# Altium schematic symbol library Schematic-Library.SchLib: 29 symbols
Pins are listed as number, name and electrical type; pins without a type are passive.

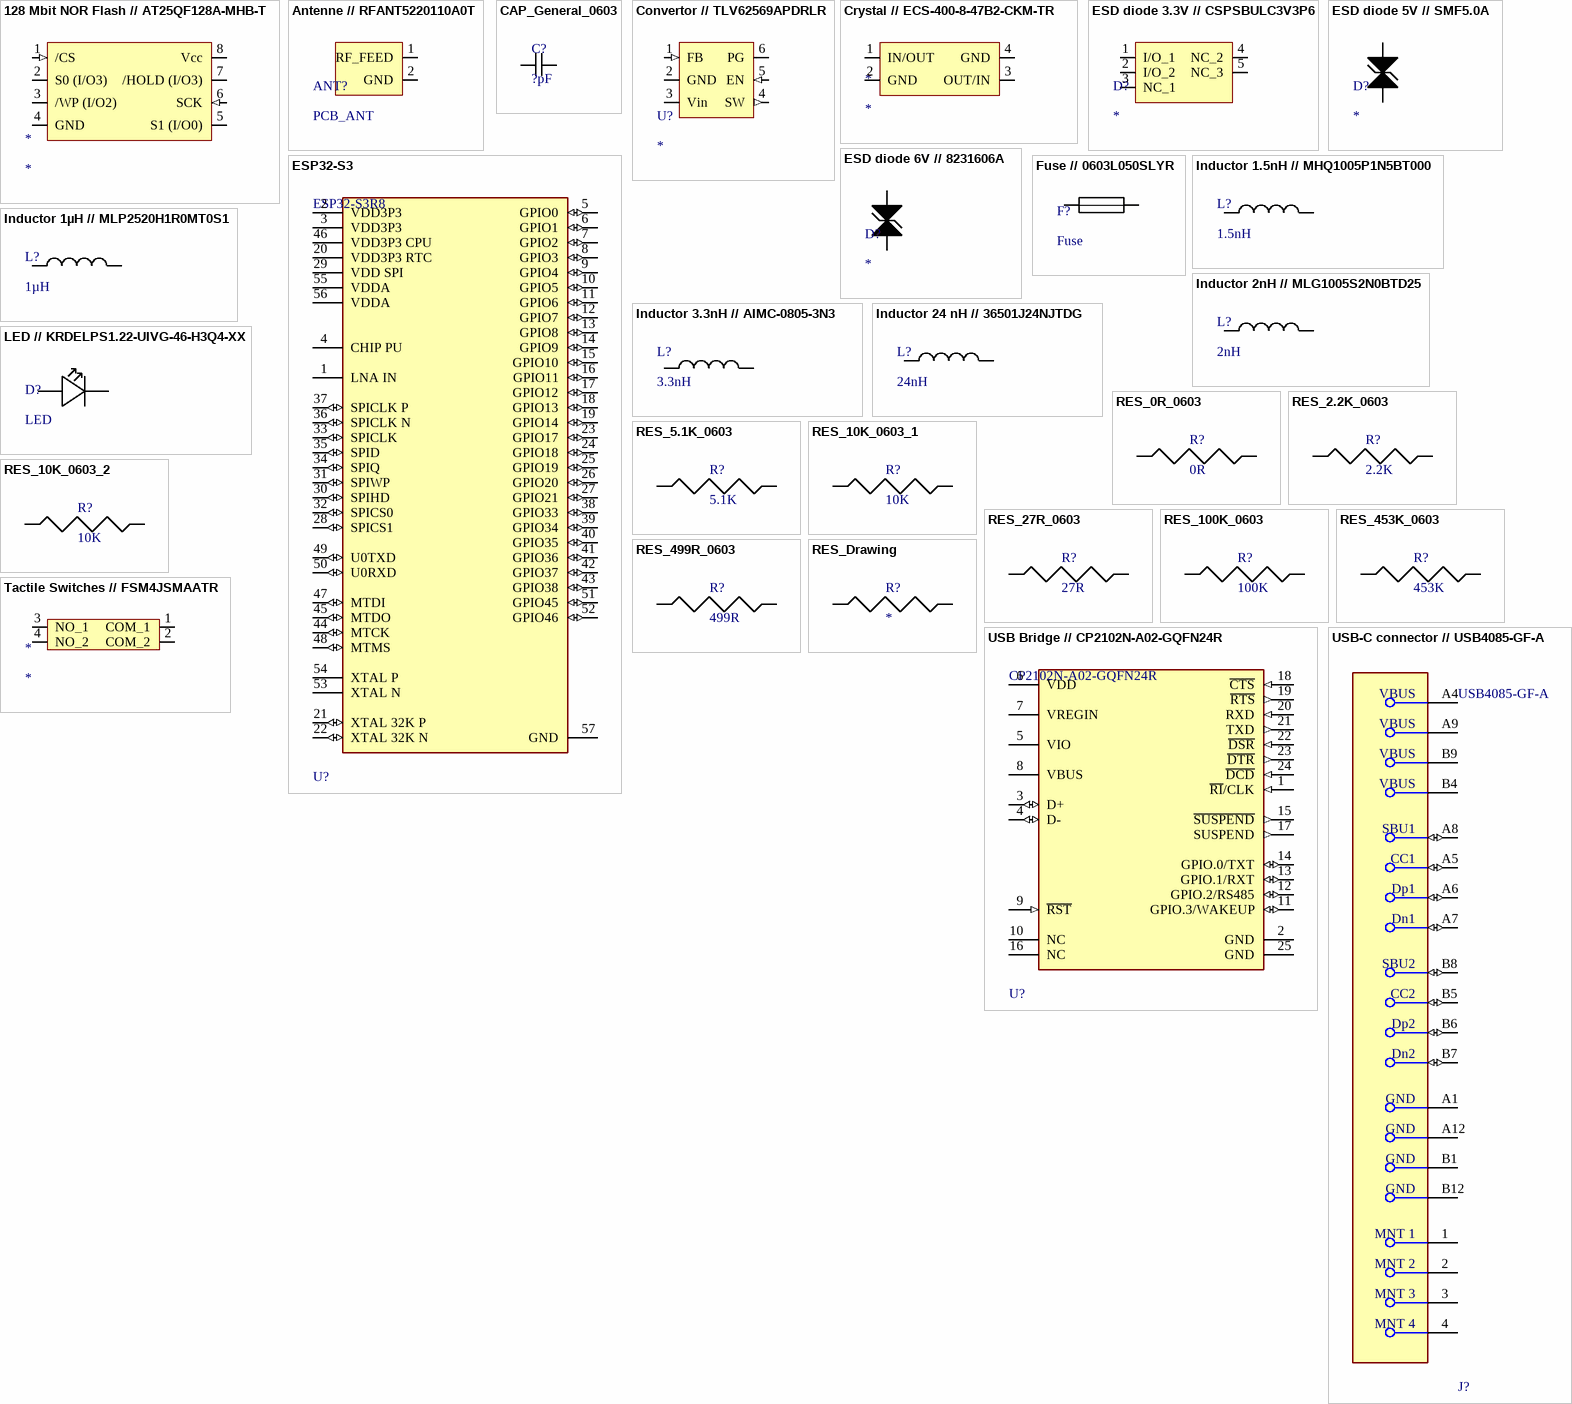
[diagram p0: symbols 128 Mbit NOR Flash // AT25QF128A-MHB-T to USB-C connector // USB4085-GF-A]

## 128 Mbit NOR Flash // AT25QF128A-MHB-T
designator *
footprint 128 Mbit NOR Flash // AT25QF128A-MHB-T
pins: 1 /CS (in), 2 S0 (I/O3) (io), 3 /WP (I/O2) (io), 4 GND (power), 5 S1 (I/O0) (io), 6 SCK (in), 7 /HOLD (I/O3) (io), 8 Vcc (power)

## Antenne // RFANT5220110A0T
designator ANT?, comment PCB_ANT
footprint Antenne // RFANT5220110A0T
pins: 1 RF_FEED, 2 GND (power)

## CAP_General_0603
designator C?, comment ?pF
Capacitor SMD 0603 ?pF
footprint CAP_General_0603 (Chip Capacitor, 2-Leads, Body 1,60x0,80mm, IPC Medium Density)
pins: 1, 2

## Convertor // TLV62569APDRLR
designator U?
footprint CONVERTOR // TLV62569APDRLR (SOT23, 6-Leads, Body 1,60x2,15mm, Pitch 0,50mm, IPC Medium Density)
pins: 1 FB (in), 2 GND (power), 3 Vin (power), 4 SW (out), 5 EN (in), 6 PG (oc)

## Crystal // ECS­400­8­47B2­CKM­TR
designator *
footprint Crystal // ECS­400­8­47B2­CKM­TR (40 MHz Crystal)
pins: 1 IN/OUT (io), 2 GND (power), 3 OUT/IN (io), 4 GND (power)

## ESD diode 3.3V // CSPSBULC3V3P6
designator D?
footprint ESD diode 3.3V // CSPSBULC3V3P6
pins: 1 I/O_1 (io), 2 I/O_2 (io), 3 NC_1, 4 NC_2, 5 NC_3

## ESD diode 5V // SMF5.0A
designator D?
footprint ESD diode 5V // SMF5.0A
pins: 1, 2

## ESD diode 6V // 8231606A
designator D?
footprint ESD diode 6V // 8231606A
pins: 1, 2

## ESP32-S3
designator U?, comment ESP32-S3R8
ESP32-S3R8 RF System on a Chip - SoC SMD IC, Dual-Core MCU, Wi-Fi 2.4G BLE 5.0 Combo; NexarPartId: 118292493
footprint FP-ESP32-S3R8
pins: 1 LNA IN, 2 VDD3P3 (power), 3 VDD3P3 (power), 4 CHIP PU, 5 GPIO0 (io), 6 GPIO1 (io), 7 GPIO2 (io), 8 GPIO3 (io), 9 GPIO4 (io), 10 GPIO5 (io), 11 GPIO6 (io), 12 GPIO7 (io), 13 GPIO8 (io), 14 GPIO9 (io), 15 GPIO10 (io), 16 GPIO11 (io), 17 GPIO12 (io), 18 GPIO13 (io), 19 GPIO14 (io), 20 VDD3P3 RTC (power), 21 XTAL 32K P (io), 22 XTAL 32K N (io), 23 GPIO17 (io), 24 GPIO18 (io), 25 GPIO19 (io), 26 GPIO20 (io), 27 GPIO21 (io), 28 SPICS1 (io), 29 VDD SPI (power), 30 SPIHD (io), 31 SPIWP (io), 32 SPICS0 (io), 33 SPICLK (io), 34 SPIQ (io), 35 SPID (io), 36 SPICLK N (io), 37 SPICLK P (io), 38 GPIO33 (io), 39 GPIO34 (io), 40 GPIO35 (io), 41 GPIO36 (io), 42 GPIO37 (io), 43 GPIO38 (io), 44 MTCK (io), 45 MTDO (io), 46 VDD3P3 CPU (power), 47 MTDI (io), 48 MTMS (io), 49 U0TXD (io), 50 U0RXD (io), 51 GPIO45 (io), 52 GPIO46 (io), 53 XTAL N, 54 XTAL P, 55 VDDA (power), 56 VDDA (power), 57 GND (power)

## Fuse // 0603L050SLYR
designator F?, comment Fuse
footprint Fuse // 0603L050SLYR
pins: 1 13, 2 14

## Inductor 1.5nH // MHQ1005P1N5BT000
designator L?, comment 1.5nH
footprint Inductor 1.5nH // MHQ1005P1N5BT000
pins: 1 3, 2 4

## Inductor 1µH // MLP2520H1R0MT0S1
designator L?, comment 1µH
footprint Inductor 1µH // MLP2520H1R0MT0S1
pins: 1 3, 2 4

## Inductor 2nH // MLG1005S2N0BTD25
designator L?, comment 2nH
footprint Inductor 2nH // MLG1005S2N0BTD25
pins: 1 3, 2 4

## Inductor 3.3nH // AIMC-0805-3N3
designator L?, comment 3.3nH
footprint Inductor 3.3nH // AIMC-0805-3N3 (Chip Inductor, 2-Leads, Body 2,00x1,25mm, IPC Medium Density)
pins: 1 3, 2 4

## Inductor 24 nH // 36501J24NJTDG
designator L?, comment 24nH
footprint Inductor 24 nH // 36501J24NJTDG
pins: 1 3, 2 4

## LED // KRDELPS1.22-UIVG-46-H3Q4-XX
designator D?, comment LED
footprint LED // KRDELPS1.22-UIVG-46-H3Q4-XX
pins: 1 15, 2 16

## RES_0R_0603
designator R?, comment 0R
Resistor SMD 0603 0R
footprint RES_0R_0603 (Chip Resistor, 2-Leads, Body 1,58x0,85mm, IPC Medium Density)
pins: 1, 2

## RES_2.2K_0603
designator R?, comment 2.2K
Resistor SMD 0603 2.2K
footprint RES_2.2K_0603 (Chip Resistor, 2-Leads, Body 1,58x0,85mm, IPC Medium Density)
pins: 1, 2

## RES_5.1K_0603
designator R?, comment 5.1K
Resistor SMD 0603 5.1K
footprint RES_5.1K_0603 (Chip Resistor, 2-Leads, Body 1,60x0,80mm, IPC Medium Density)
pins: 1, 2

## RES_10K_0603_1
designator R?, comment 10K
Resistor SMD 0603 10K
footprint RES_10K_0603_1 (Chip Resistor, 2-Leads, Body 1,55x0,80mm, IPC Medium Density)
pins: 1, 2

## RES_10K_0603_2
designator R?, comment 10K
Resistor SMD 0603 10K
footprint RES_10K_0603_2 (Chip Resistor, 2-Leads, Body 1,60x0,80mm, IPC Medium Density)
pins: 1, 2

## RES_27R_0603
designator R?, comment 27R
Resistor SMD 0603 27R
footprint RES_27R_0603 (Chip Resistor, 2-Leads, Body 1,60x0,80mm, IPC Medium Density)
pins: 1, 2

## RES_100K_0603
designator R?, comment 100K
Resistor SMD 0603 100K
footprint RES_100K_0603 (Chip Resistor, 2-Leads, Body 1,60x0,80mm, IPC Medium Density)
pins: 1, 2

## RES_453K_0603
designator R?, comment 453K
Resistor SMD 0603 453K
footprint RES_453K_0603 (Chip Resistor, 2-Leads, Body 1,55x0,80mm, IPC Medium Density)
pins: 1, 2

## RES_499R_0603
designator R?, comment 499R
Resistor SMD 0603 499R
footprint RES_499R_0603 (Chip Resistor, 2-Leads, Body 1,55x0,85mm, IPC Medium Density)
pins: 1, 2

## RES_Drawing
designator R?
Resistor SMD 0603 ?R
pins: 1, 2

## Tactile Switches // FSM4JSMAATR
designator *
footprint Tactile Switches // FSM4JSMAATR
pins: 1 COM_1, 2 COM_2, 3 NO_1, 4 NO_2

## USB Bridge // CP2102N-A02-GQFN24R
designator U?, comment CP2102N-A02-GQFN24R
IC USB TO UART BRIDGE QFN24; Manufacturer Lifecycle Status: FULL PRODUCTION; NexarPartId: 99772192; Max Junction Temperature (Tj): 105°C; Min Supply Voltage: 1.71V; Max Supply Voltage: 3.6V; Number of Digital IO: 4; Interface: I2C, RS-485, UART, USB; Lifecycle Status: Production; Min Operating Temperature: -40°C; Height: 800µm; Ambient Temperature Range High: 85°C; Schedule B: 8542390000, 8542390000|8542390000|8542390000|8542390000|8542390000; Max Operating Temperature: 85°C
footprint USB Bridge // CP2102N-A02-GQFN24R
pins: 1 ~{RI}/CLK (in), 2 GND (power), 3 D+ (io), 4 D- (io), 5 VIO (power), 6 VDD (power), 7 VREGIN (power), 8 VBUS (power), 9 ~{RST} (in), 10 NC, 11 GPIO.3/WAKEUP (io), 12 GPIO.2/RS485 (io), 13 GPIO.1/RXT (io), 14 GPIO.0/TXT (io), 15 ~{SUSPEND} (out), 16 NC, 17 SUSPEND (out), 18 ~{CTS} (in), 19 ~{RTS} (out), 20 RXD (in), 21 TXD (out), 22 ~{DSR} (in), 23 ~{DTR} (out), 24 ~{DCD} (in), 25 GND (power)

## USB-C connector // USB4085-GF-A
designator J?, comment USB4085-GF-A
CONN RCPT USB2.0 TYPE C 24POS RA; Gender: Receptacle; Number of Positions: 16; USB Standard: USB 2.0; Orientation: Right Angle; Contact Plating: Gold; Contact Material: Copper Alloy
footprint USB-C connector // USB4085-GF-A
pins: 1 MNT 1, 2 MNT 2, 3 MNT 3, 4 MNT 4, A1 GND (power), A4 VBUS (power), A5 CC1 (io), A6 Dp1 (io), A7 Dn1 (io), A8 SBU1 (io), A9 VBUS (power), A12 GND (power), B1 GND (power), B4 VBUS (power), B5 CC2 (io), B6 Dp2 (io), B7 Dn2 (io), B8 SBU2 (io), B9 VBUS (power), B12 GND (power)